# Altium integrated library FUSE.IntLib: 1 symbol
Pins are listed as number, name and electrical type; pins without a type are passive.

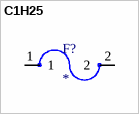
[diagram p0: symbol C1H25]

## C1H25
designator F?
25 A 125 V AC 32 V DC Fuse Board Mount (Cartridge Style Excluded) Surface Mount 1206 (3216 Metric); MF: Bel Fuse; MP: C1H25; SnapEDA_Link: https://www.snapeda.com/parts/C1H25/Bel+Circuit+Protection/view-part/?ref=snap; Package: 1206 Bel Fuse Inc.; Value: *; Check_prices: https://www.snapeda.com/parts/C1H25/Bel+Circuit+Protection/view-part/?ref=eda
footprint FUSM3216X85N
pins: 1, 2